# Altium footprint library SON50P150X150X80-6N.PcbLib: 1 footprints
Each footprint in its own frame and in the unit in brackets; x right, y up, seen from the top. Pads: shape width x height; smd on the part's side, far side on the other; paste and mask are expansions set on the pad; w line width, h text height; cw(c..) or ccw(c..) is an arc to the next point about the centre after c.
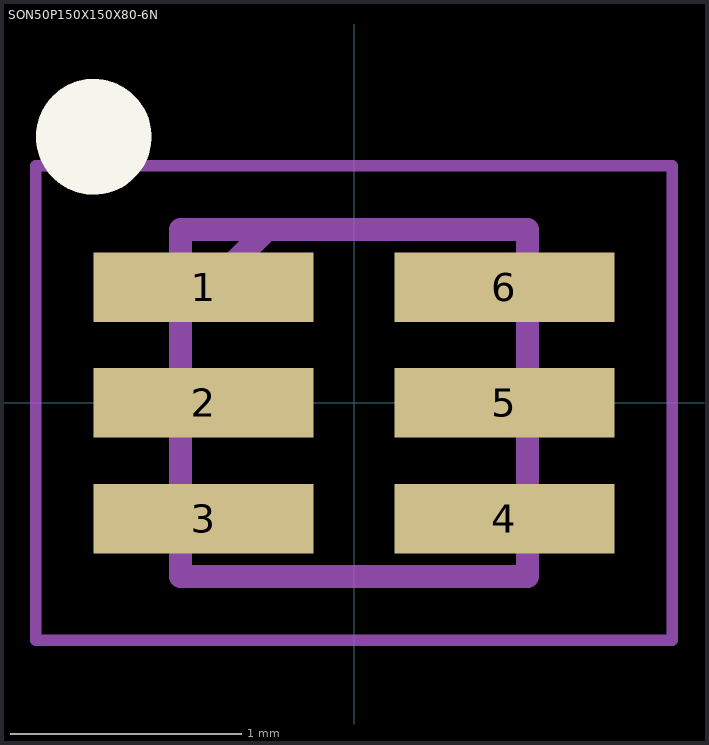
[diagram p0: the footprint, top view; thin cyan lines are the x and y axes]

## SON50P150X150X80-6N [mm]
pads (6):
  rect 0.95x0.3 smd: 1(-0.65,0.5) 2(-0.65,0) 3(-0.65,-0.5) 4(0.65,-0.5) 5(0.65,0) 6(0.65,0.5)
Top Overlay:
  circle w0.25: c-1.125,1.15 r0.125
Mechanical 15:
  lines w0.1: -0.75,0.375 -0.375,0.75 ; -0.75,-0.75 0.75,-0.75 0.75,0.75 -0.75,0.75 -0.75,-0.75
Mechanical 20:
  lines w0.05: -1.375,-1.025 1.375,-1.025 1.375,1.025 -1.375,1.025 -1.375,-1.025